# EAGLE library part SC810 (library comingle)
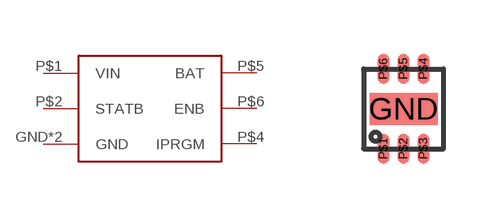
[diagram p1: symbol with the pads of MLPD-UT6; footprint MLPD-UT6]

Designator prefix -

## SC810  [MLPD-UT6]
GND  GND  pwr
P$1  VIN  sup
P$2  STATB
P$3  GND  pwr
P$4  IPRGM
P$5  BAT  out
P$6  ENB

## Footprint MLPD-UT6 (pad centres in mm)
MLPD-UT6 package, used for a variety of Semtech parts
smd 1.7 x 0.8: GND 0,0
smd 0.3 x 0.75: P$1 -0.5,-1; P$2 0,-1; P$3 0.5,-1; P$4 0.5,1; P$5 0,1; P$6 -0.5,1